# Altium integrated library TI Power Management Linear Regulator Dual Channel LDO.IntLib: 299 symbols (part 12 of 15)
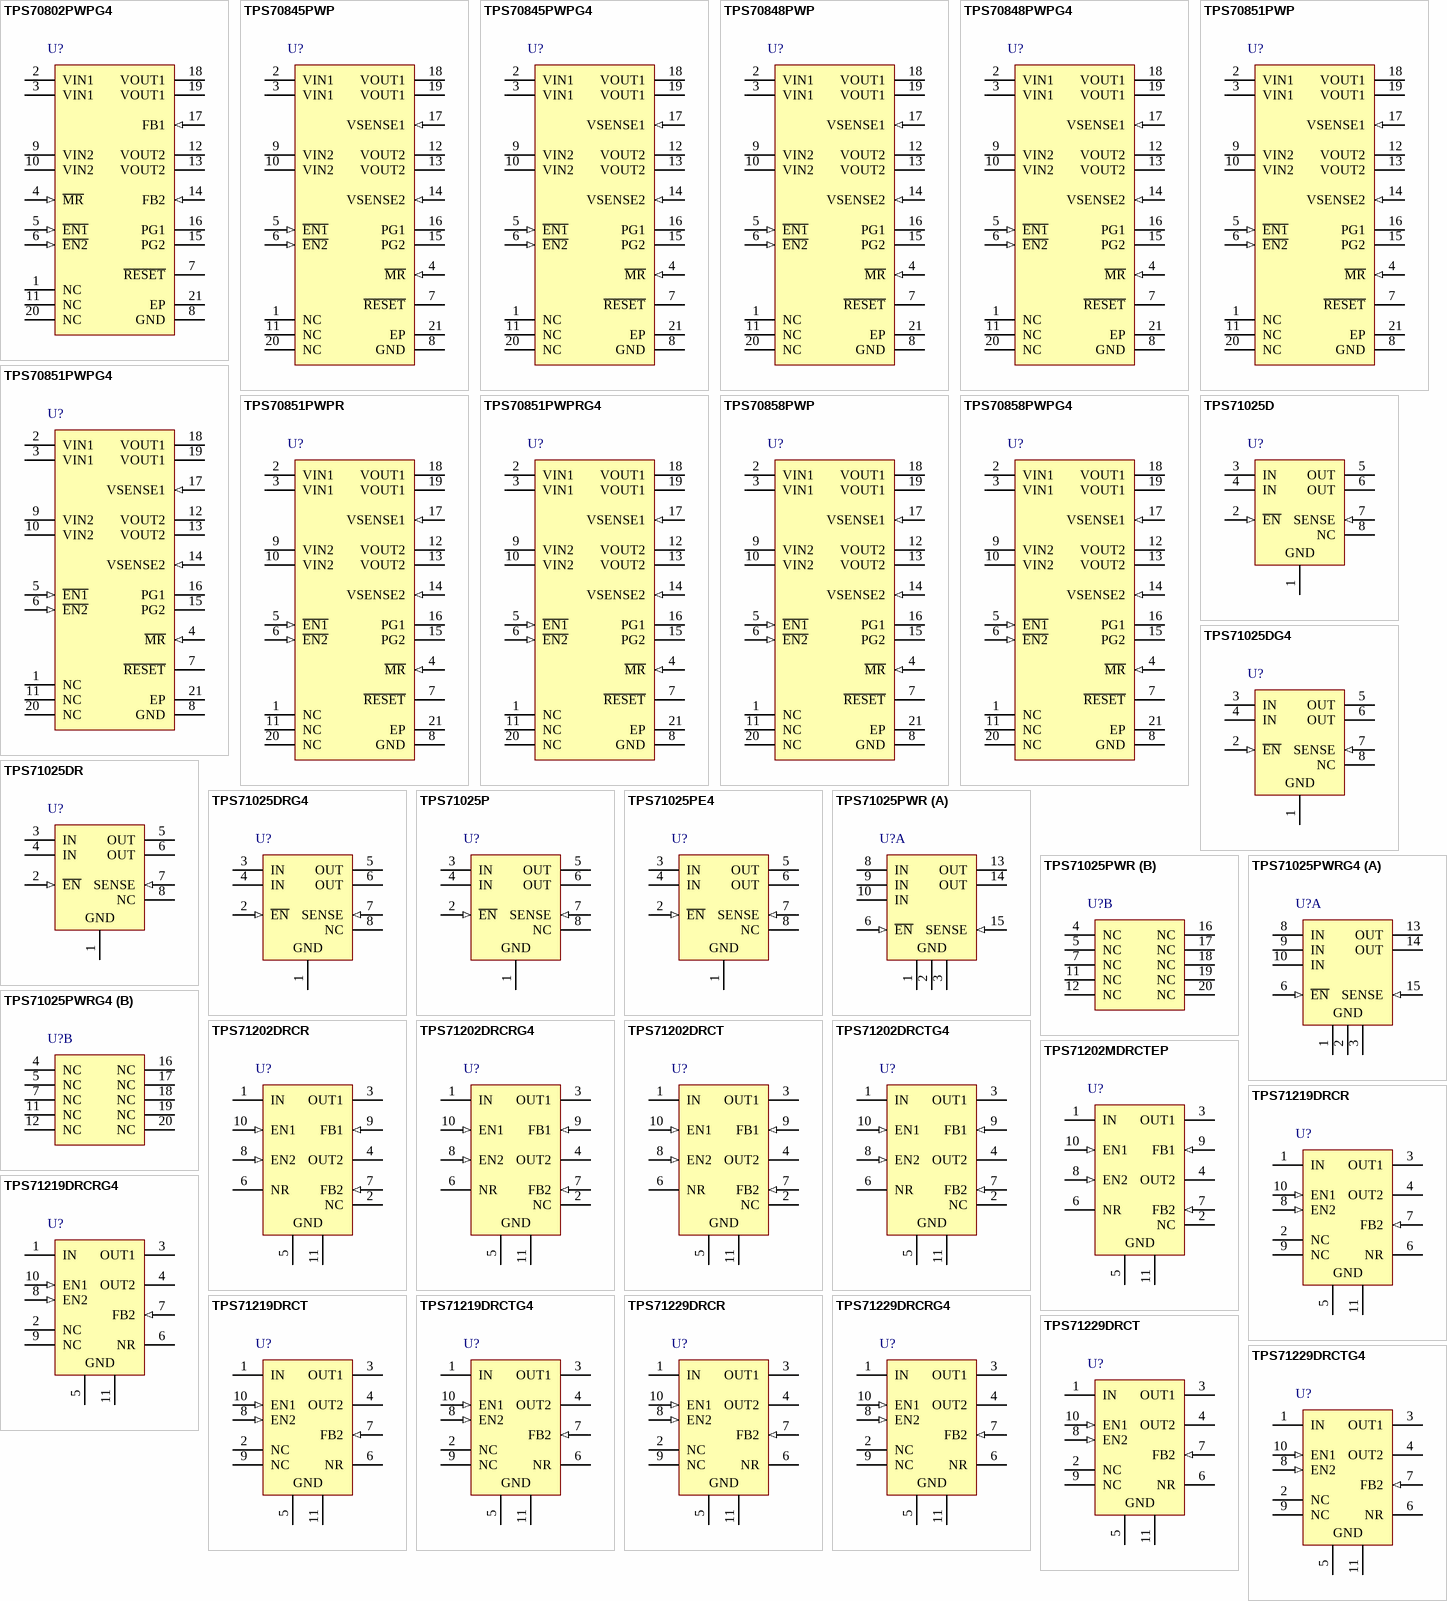
[diagram p22: symbols TPS70802PWPG4 to TPS71229DRCTG4]

## TPS71202DRCTG4
designator U?
Dual Output High PSRR LDO, 200 mA, 2.7 to 5.5 V Input, 10-pin SON (DRC), -40 to 125 degC, Green (RoHS & no Sb/Br); Manufacturer: Texas Instruments; PartNumber: TPS71202DRCTG4; Iout(Max)(A): 0.2; Iq(Typ)(mA): 0.3; SubFamily: Dual Channel LDO; Vdo(Typ)(mV): 125; Vin(Max)(V): 5.5; Vin(Min)(V): 2.7; Vout(Min)(V): 1.2; DatasheetVersion: SBVS049D; PackageVersion: 4204102-3/L; PackageReference: DRC10-2400X1650TP; PackageDescription: 10-Pin Plastic Small Outline, Body 3 x 3 mm, Pitch 0.5 mm; Supplier 1: Digi-Key; Supplier Part Number 1: TPS71202DRCTG4-ND; Supplier 2: Mouser; Supplier Part Number 2: 595-TPS71202DRCTG4; Eco-Plan: Green (RoHS & no Sb/Br); Iout2(A): 0.2; Vout(Max)(V): 5.5; Vout2(Max)(V): 5.5; Vout2(Min)(V): 1.2; Mounting Technology: Surface Mount; ComponentLink1Description: Manufacturer URL; ComponentLink1URL: http://www.ti.com/; ComponentLink2Description: Datasheet; ComponentLink2URL: http://www.ti.com/general/docs/lit/getliterature.tsp?genericPartNumber=TPS71202&fileType=pdf; ComponentLink3Description: Package Specification; ComponentLink3URL: http://www.ti.com/litv/pdf/mpds117k
footprint TI-DRC10-2400X1650TP_V (SON, 10-Leads, Body 3x3mm, Pitch 0.5mm, Thermal Pad 3x1.65mm)
pins: 1 IN (power) "Unregulated input supply. A small 0.1 uF capacitor should be connected from IN to GND.", 2 NC "No connection.", 3 OUT1 (power) "Output of the regulator. A small 2.2 uF ceramic capacitor is required from this pin to ground to assure stability.", 4 OUT2 (power) "Same as OUT1 but for LDO2.", 5 GND (power) "Ground", 6 NR "Noise reduction pin; connect an external bypass capacitor to reduce LDO output noise.", 7 FB2 (in) "Feedback for CH2 adjustable version", 8 EN2 (in) "Same as EN1 but controls LDO2.", 9 FB1 (in) "Feedback for CH1 adjustable version", 10 EN1 (in) "Driving the enable pin (EN) high turns on LDO1. Driving this pin low puts LDO1 into shutdown mode,reducing operating current. The enable pin should be connected to IN if not used.", 11 GND (power) "Ground"

## TPS71202MDRCTEP
designator U?
Dual Output High PSRR LDO, 200 mA, 2.7 to 5.5 V Input, with Ultra-Low Noise, 10-pin SON(DRC), -55 to 125 degC, Green (RoHS & no Sb/Br); Manufacturer: Texas Instruments; PartNumber: TPS71202MDRCTEP; Iout(Max)(A): 0.2; Iq(Typ)(mA): 0.3; SubFamily: Dual Channel LDO; Vdo(Typ)(mV): 125; Vin(Max)(V): 5.5; Vin(Min)(V): 2.7; DatasheetVersion: SGLS395A; PackageVersion: 4204102-3/L; PackageReference: DRC10-2400X1650TP; PackageDescription: 10-Pin Plastic Small Outline, Body 3 x 3 mm, Pitch 0.5 mm; Supplier 1: Digi-Key; Supplier Part Number 1: 296-23866-2-ND; Supplier 2: Digi-Key; Supplier Part Number 2: 296-23866-1-ND; Supplier 3: Digi-Key; Supplier Part Number 3: 296-23866-6-ND; Supplier 4: Newark; Supplier Part Number 4: 79R8604; Supplier 5: Mouser; Supplier Part Number 5: 595-TPS71202MDRCTEP; Eco-Plan: Green (RoHS & no Sb/Br); Iout2(A): 0.2; Mounting Technology: Surface Mount; ComponentLink1Description: Manufacturer URL; ComponentLink1URL: http://www.ti.com/; ComponentLink2Description: Datasheet; ComponentLink2URL: http://www.ti.com/general/docs/lit/getliterature.tsp?genericPartNumber=TPS71202-EP&fileType=pdf; ComponentLink3Description: Package Specification; ComponentLink3URL: http://www.ti.com/litv/pdf/mpds117k
footprint TI-DRC10-2400X1650TP_V (SON, 10-Leads, Body 3x3mm, Pitch 0.5mm, Thermal Pad 3x1.65mm)
pins: 1 IN (power) "Unregulated input supply. A small 0.1 uF capacitor should be connected from IN to GND.", 2 NC "No connection.", 3 OUT1 (power) "Output of the regulator. A small 2.2 uF ceramic capacitor is required from this pin to ground to assure stability.", 4 OUT2 (power) "Same as OUT1 but for LDO2.", 5 GND (power) "Ground", 6 NR "Noise reduction pin; connect an external bypass capacitor to reduce LDO output noise.", 7 FB2 (in) "Feedback for CH2 adjustable version", 8 EN2 (in) "Same as EN1 but controls LDO2.", 9 FB1 (in) "Feedback for CH1 adjustable version", 10 EN1 (in) "Driving the enable pin (EN) high turns on LDO1. Driving this pin low puts LDO1 into shutdown mode,reducing operating current. The enable pin should be connected to IN if not used.", 11 GND (power) "Ground"

## TPS71219DRCR
designator U?
Dual Output High PSRR LDO, 200 mA, Fixed 1.8 V Output, 2.7 to 5.5 V Input, 10-pin SON (DRC), -40 to 125 degC, Green (RoHS & no Sb/Br); Manufacturer: Texas Instruments; PartNumber: TPS71219DRCR; Fixed Output Options(V): 1.8; Iout(Max)(A): 0.2; Iq(Typ)(mA): 0.3; SubFamily: Dual Channel LDO; Vdo(Typ)(mV): 125; Vin(Max)(V): 5.5; Vin(Min)(V): 2.7; Vout2(Min)(V): 1.2; DatasheetVersion: SBVS049D; PackageVersion: 4204102-3/L; PackageReference: DRC10-2400X1650TP; PackageDescription: 10-Pin Plastic Small Outline, Body 3 x 3 mm, Pitch 0.5 mm; Supplier 1: Digi-Key; Supplier Part Number 1: 296-29077-2-ND; Supplier 2: Digi-Key; Supplier Part Number 2: 296-29077-1-ND; Supplier 3: Digi-Key; Supplier Part Number 3: 296-29077-6-ND; Supplier 4: Mouser; Supplier Part Number 4: 595-TPS71219DRCR; Eco-Plan: Green (RoHS & no Sb/Br); Iout2(A): 0.2; Vout(Max)(V): 1.8; Vout(Min)(V): 1.8; Vout2(Max)(V): 5.5; Mounting Technology: Surface Mount; ComponentLink1Description: Manufacturer URL; ComponentLink1URL: http://www.ti.com/; ComponentLink2Description: Datasheet; ComponentLink2URL: http://www.ti.com/general/docs/lit/getliterature.tsp?genericPartNumber=TPS71219&fileType=pdf; ComponentLink3Description: Package Specification; ComponentLink3URL: http://www.ti.com/litv/pdf/mpds117k
footprint TI-DRC10-2400X1650TP_V (SON, 10-Leads, Body 3x3mm, Pitch 0.5mm, Thermal Pad 3x1.65mm)
pins: 1 IN (power) "Unregulated input supply. A small 0.1 uF capacitor should be connected from IN to GND.", 2 NC "No connection.", 3 OUT1 (power) "Output of the regulator. A small 2.2 uF ceramic capacitor is required from this pin to ground to assure stability.", 4 OUT2 (power) "Same as OUT1 but for LDO2.", 5 GND (power) "Ground", 6 NR "Noise reduction pin; connect an external bypass capacitor to reduce LDO output noise.", 7 FB2 (in) "Feedback for CH2 adjustable version.", 8 EN2 (in) "Same as EN1 but controls LDO2.", 9 NC "No connection.", 10 EN1 (in) "Driving the enable pin (EN) high turns on LDO1. Driving this pin low puts LDO1 into shutdown mode, reducing operating current. The enable pin should be connected to IN if not used.", 11 GND (power) "Ground"

## TPS71219DRCRG4
designator U?
Dual Output High PSRR LDO, 200 mA, Fixed 1.8 V Output, 2.7 to 5.5 V Input, 10-pin SON (DRC), -40 to 125 degC, Green (RoHS & no Sb/Br); Manufacturer: Texas Instruments; PartNumber: TPS71219DRCRG4; Fixed Output Options(V): 1.8; Iout(Max)(A): 0.2; Iq(Typ)(mA): 0.3; SubFamily: Dual Channel LDO; Vdo(Typ)(mV): 125; Vin(Max)(V): 5.5; Vin(Min)(V): 2.7; Vout2(Min)(V): 1.2; DatasheetVersion: SBVS049D; PackageVersion: 4204102-3/L; PackageReference: DRC10-2400X1650TP; PackageDescription: 10-Pin Plastic Small Outline, Body 3 x 3 mm, Pitch 0.5 mm; Supplier 1: Digi-Key; Supplier Part Number 1: TPS71219DRCRG4-ND; Supplier 2: Mouser; Supplier Part Number 2: 595-TPS71219DRCRG4; Eco-Plan: Green (RoHS & no Sb/Br); Iout2(A): 0.2; Vout(Max)(V): 1.8; Vout(Min)(V): 1.8; Vout2(Max)(V): 5.5; Mounting Technology: Surface Mount; ComponentLink1Description: Manufacturer URL; ComponentLink1URL: http://www.ti.com/; ComponentLink2Description: Datasheet; ComponentLink2URL: http://www.ti.com/general/docs/lit/getliterature.tsp?genericPartNumber=TPS71219&fileType=pdf; ComponentLink3Description: Package Specification; ComponentLink3URL: http://www.ti.com/litv/pdf/mpds117k
footprint TI-DRC10-2400X1650TP_V (SON, 10-Leads, Body 3x3mm, Pitch 0.5mm, Thermal Pad 3x1.65mm)
pins: 1 IN (power) "Unregulated input supply. A small 0.1 uF capacitor should be connected from IN to GND.", 2 NC "No connection.", 3 OUT1 (power) "Output of the regulator. A small 2.2 uF ceramic capacitor is required from this pin to ground to assure stability.", 4 OUT2 (power) "Same as OUT1 but for LDO2.", 5 GND (power) "Ground", 6 NR "Noise reduction pin; connect an external bypass capacitor to reduce LDO output noise.", 7 FB2 (in) "Feedback for CH2 adjustable version.", 8 EN2 (in) "Same as EN1 but controls LDO2.", 9 NC "No connection.", 10 EN1 (in) "Driving the enable pin (EN) high turns on LDO1. Driving this pin low puts LDO1 into shutdown mode, reducing operating current. The enable pin should be connected to IN if not used.", 11 GND (power) "Ground"

## TPS71219DRCT
designator U?
Dual Output High PSRR LDO, 200 mA, Fixed 1.8 V Output, 2.7 to 5.5 V Input, 10-pin SON (DRC), -40 to 125 degC, Green (RoHS & no Sb/Br); Manufacturer: Texas Instruments; PartNumber: TPS71219DRCT; Fixed Output Options(V): 1.8; Iout(Max)(A): 0.2; Iq(Typ)(mA): 0.3; SubFamily: Dual Channel LDO; Vdo(Typ)(mV): 125; Vin(Max)(V): 5.5; Vin(Min)(V): 2.7; Vout2(Min)(V): 1.2; DatasheetVersion: SBVS049D; PackageVersion: 4204102-3/L; PackageReference: DRC10-2400X1650TP; PackageDescription: 10-Pin Plastic Small Outline, Body 3 x 3 mm, Pitch 0.5 mm; Supplier 1: Digi-Key; Supplier Part Number 1: 296-17697-2-ND; Supplier 2: Digi-Key; Supplier Part Number 2: 296-17697-1-ND; Supplier 3: Digi-Key; Supplier Part Number 3: 296-17697-6-ND; Supplier 4: Farnell; Supplier Part Number 4: 1755487; Supplier 5: Farnell; Supplier Part Number 5: 1755487RL; Supplier 6: Newark; Supplier Part Number 6: 34R9237; Supplier 7: Mouser; Supplier Part Number 7: 595-TPS71219DRCT; Eco-Plan: Green (RoHS & no Sb/Br); Iout2(A): 0.2; Vout(Max)(V): 1.8; Vout(Min)(V): 1.8; Vout2(Max)(V): 5.5; Mounting Technology: Surface Mount; ComponentLink1Description: Manufacturer URL; ComponentLink1URL: http://www.ti.com/; ComponentLink2Description: Datasheet; ComponentLink2URL: http://www.ti.com/general/docs/lit/getliterature.tsp?genericPartNumber=TPS71219&fileType=pdf; ComponentLink3Description: Package Specification; ComponentLink3URL: http://www.ti.com/litv/pdf/mpds117k
footprint TI-DRC10-2400X1650TP_V (SON, 10-Leads, Body 3x3mm, Pitch 0.5mm, Thermal Pad 3x1.65mm)
pins: 1 IN (power) "Unregulated input supply. A small 0.1 uF capacitor should be connected from IN to GND.", 2 NC "No connection.", 3 OUT1 (power) "Output of the regulator. A small 2.2 uF ceramic capacitor is required from this pin to ground to assure stability.", 4 OUT2 (power) "Same as OUT1 but for LDO2.", 5 GND (power) "Ground", 6 NR "Noise reduction pin; connect an external bypass capacitor to reduce LDO output noise.", 7 FB2 (in) "Feedback for CH2 adjustable version.", 8 EN2 (in) "Same as EN1 but controls LDO2.", 9 NC "No connection.", 10 EN1 (in) "Driving the enable pin (EN) high turns on LDO1. Driving this pin low puts LDO1 into shutdown mode, reducing operating current. The enable pin should be connected to IN if not used.", 11 GND (power) "Ground"

## TPS71219DRCTG4
designator U?
Dual Output High PSRR LDO, 200 mA, Fixed 1.8 V Output, 2.7 to 5.5 V Input, 10-pin SON (DRC), -40 to 125 degC, Green (RoHS & no Sb/Br); Manufacturer: Texas Instruments; PartNumber: TPS71219DRCTG4; Fixed Output Options(V): 1.8; Iout(Max)(A): 0.2; Iq(Typ)(mA): 0.3; SubFamily: Dual Channel LDO; Vdo(Typ)(mV): 125; Vin(Max)(V): 5.5; Vin(Min)(V): 2.7; Vout2(Min)(V): 1.2; DatasheetVersion: SBVS049D; PackageVersion: 4204102-3/L; PackageReference: DRC10-2400X1650TP; PackageDescription: 10-Pin Plastic Small Outline, Body 3 x 3 mm, Pitch 0.5 mm; Supplier 1: Digi-Key; Supplier Part Number 1: TPS71219DRCTG4-ND; Supplier 2: Mouser; Supplier Part Number 2: 595-TPS71219DRCTG4; Eco-Plan: Green (RoHS & no Sb/Br); Iout2(A): 0.2; Vout(Max)(V): 1.8; Vout(Min)(V): 1.8; Vout2(Max)(V): 5.5; Mounting Technology: Surface Mount; ComponentLink1Description: Manufacturer URL; ComponentLink1URL: http://www.ti.com/; ComponentLink2Description: Datasheet; ComponentLink2URL: http://www.ti.com/general/docs/lit/getliterature.tsp?genericPartNumber=TPS71219&fileType=pdf; ComponentLink3Description: Package Specification; ComponentLink3URL: http://www.ti.com/litv/pdf/mpds117k
footprint TI-DRC10-2400X1650TP_V (SON, 10-Leads, Body 3x3mm, Pitch 0.5mm, Thermal Pad 3x1.65mm)
pins: 1 IN (power) "Unregulated input supply. A small 0.1 uF capacitor should be connected from IN to GND.", 2 NC "No connection.", 3 OUT1 (power) "Output of the regulator. A small 2.2 uF ceramic capacitor is required from this pin to ground to assure stability.", 4 OUT2 (power) "Same as OUT1 but for LDO2.", 5 GND (power) "Ground", 6 NR "Noise reduction pin; connect an external bypass capacitor to reduce LDO output noise.", 7 FB2 (in) "Feedback for CH2 adjustable version.", 8 EN2 (in) "Same as EN1 but controls LDO2.", 9 NC "No connection.", 10 EN1 (in) "Driving the enable pin (EN) high turns on LDO1. Driving this pin low puts LDO1 into shutdown mode, reducing operating current. The enable pin should be connected to IN if not used.", 11 GND (power) "Ground"

## TPS71229DRCR
designator U?
Dual Output High PSRR LDO, 200 mA, Fixed 2.8 V Output, 2.7 to 5.5 V Input, 10-pin SON (DRC), -40 to 125 degC, Green (RoHS & no Sb/Br); Manufacturer: Texas Instruments; PartNumber: TPS71229DRCR; Fixed Output Options(V): 2.8; Iout(Max)(A): 0.2; Iq(Typ)(mA): 0.3; SubFamily: Dual Channel LDO; Vdo(Typ)(mV): 125; Vin(Max)(V): 5.5; Vin(Min)(V): 2.7; Vout2(Min)(V): 1.2; DatasheetVersion: SBVS049D; PackageVersion: 4204102-3/L; PackageReference: DRC10-2400X1650TP; PackageDescription: 10-Pin Plastic Small Outline, Body 3 x 3 mm, Pitch 0.5 mm; Supplier 1: Digi-Key; Supplier Part Number 1: TPS71229DRCR-ND; Supplier 2: Newark; Supplier Part Number 2: 73J8394; Supplier 3: Mouser; Supplier Part Number 3: 595-TPS71229DRCR; Eco-Plan: Green (RoHS & no Sb/Br); Iout2(A): 0.2; Vout(Max)(V): 2.8; Vout(Min)(V): 2.8; Vout2(Max)(V): 5.5; Mounting Technology: Surface Mount; ComponentLink1Description: Manufacturer URL; ComponentLink1URL: http://www.ti.com/; ComponentLink2Description: Datasheet; ComponentLink2URL: http://www.ti.com/general/docs/lit/getliterature.tsp?genericPartNumber=TPS71229&fileType=pdf; ComponentLink3Description: Package Specification; ComponentLink3URL: http://www.ti.com/litv/pdf/mpds117k
footprint TI-DRC10-2400X1650TP_V (SON, 10-Leads, Body 3x3mm, Pitch 0.5mm, Thermal Pad 3x1.65mm)
pins: 1 IN (power) "Unregulated input supply. A small 0.1 uF capacitor should be connected from IN to GND.", 2 NC "No connection.", 3 OUT1 (power) "Output of the regulator. A small 2.2 uF ceramic capacitor is required from this pin to ground to assure stability.", 4 OUT2 (power) "Same as OUT1 but for LDO2.", 5 GND (power) "Ground", 6 NR "Noise reduction pin; connect an external bypass capacitor to reduce LDO output noise.", 7 FB2 (in) "Feedback for CH2 adjustable version", 8 EN2 (in) "Same as EN1 but controls LDO2.", 9 NC "no connection for non-adjustable CH1.", 10 EN1 (in) "Driving the enable pin (EN) high turns on LDO1. Driving this pin low puts LDO1 into shutdown mode, reducing operating current. The enable pin should be connected to IN if not used.", 11 GND (power) "Ground"

## TPS71229DRCRG4
designator U?
Dual Output High PSRR LDO, 200 mA, Fixed 2.8 V Output, 2.7 to 5.5 V Input, 10-pin SON (DRC), -40 to 125 degC, Green (RoHS & no Sb/Br); Manufacturer: Texas Instruments; PartNumber: TPS71229DRCRG4; Fixed Output Options(V): 2.8; Iout(Max)(A): 0.2; Iq(Typ)(mA): 0.3; SubFamily: Dual Channel LDO; Vdo(Typ)(mV): 125; Vin(Max)(V): 5.5; Vin(Min)(V): 2.7; Vout2(Min)(V): 1.2; DatasheetVersion: SBVS049D; PackageVersion: 4204102-3/L; PackageReference: DRC10-2400X1650TP; PackageDescription: 10-Pin Plastic Small Outline, Body 3 x 3 mm, Pitch 0.5 mm; Supplier 1: Digi-Key; Supplier Part Number 1: TPS71229DRCRG4-ND; Supplier 2: Mouser; Supplier Part Number 2: 595-TPS71229DRCRG4; Eco-Plan: Green (RoHS & no Sb/Br); Iout2(A): 0.2; Vout(Max)(V): 2.8; Vout(Min)(V): 2.8; Vout2(Max)(V): 5.5; Mounting Technology: Surface Mount; ComponentLink1Description: Manufacturer URL; ComponentLink1URL: http://www.ti.com/; ComponentLink2Description: Datasheet; ComponentLink2URL: http://www.ti.com/general/docs/lit/getliterature.tsp?genericPartNumber=TPS71229&fileType=pdf; ComponentLink3Description: Package Specification; ComponentLink3URL: http://www.ti.com/litv/pdf/mpds117k
footprint TI-DRC10-2400X1650TP_V (SON, 10-Leads, Body 3x3mm, Pitch 0.5mm, Thermal Pad 3x1.65mm)
pins: 1 IN (power) "Unregulated input supply. A small 0.1 uF capacitor should be connected from IN to GND.", 2 NC "No connection.", 3 OUT1 (power) "Output of the regulator. A small 2.2 uF ceramic capacitor is required from this pin to ground to assure stability.", 4 OUT2 (power) "Same as OUT1 but for LDO2.", 5 GND (power) "Ground", 6 NR "Noise reduction pin; connect an external bypass capacitor to reduce LDO output noise.", 7 FB2 (in) "Feedback for CH2 adjustable version", 8 EN2 (in) "Same as EN1 but controls LDO2.", 9 NC "no connection for non-adjustable CH1.", 10 EN1 (in) "Driving the enable pin (EN) high turns on LDO1. Driving this pin low puts LDO1 into shutdown mode, reducing operating current. The enable pin should be connected to IN if not used.", 11 GND (power) "Ground"

## TPS71229DRCT
designator U?
Dual Output High PSRR LDO, 200 mA, Fixed 2.8 V Output, 2.7 to 5.5 V Input, 10-pin SON (DRC), -40 to 125 degC, Green (RoHS & no Sb/Br); Manufacturer: Texas Instruments; PartNumber: TPS71229DRCT; Fixed Output Options(V): 2.8; Iout(Max)(A): 0.2; Iq(Typ)(mA): 0.3; SubFamily: Dual Channel LDO; Vdo(Typ)(mV): 125; Vin(Max)(V): 5.5; Vin(Min)(V): 2.7; Vout2(Min)(V): 1.2; DatasheetVersion: SBVS049D; PackageVersion: 4204102-3/L; PackageReference: DRC10-2400X1650TP; PackageDescription: 10-Pin Plastic Small Outline, Body 3 x 3 mm, Pitch 0.5 mm; Supplier 1: Digi-Key; Supplier Part Number 1: 296-17698-2-ND; Supplier 2: Digi-Key; Supplier Part Number 2: 296-17698-1-ND; Supplier 3: Digi-Key; Supplier Part Number 3: 296-17698-6-ND; Supplier 4: Mouser; Supplier Part Number 4: 595-TPS71229DRCT; Eco-Plan: Green (RoHS & no Sb/Br); Iout2(A): 0.2; Vout(Max)(V): 2.8; Vout(Min)(V): 2.8; Vout2(Max)(V): 5.5; Mounting Technology: Surface Mount; ComponentLink1Description: Manufacturer URL; ComponentLink1URL: http://www.ti.com/; ComponentLink2Description: Datasheet; ComponentLink2URL: http://www.ti.com/general/docs/lit/getliterature.tsp?genericPartNumber=TPS71229&fileType=pdf; ComponentLink3Description: Package Specification; ComponentLink3URL: http://www.ti.com/litv/pdf/mpds117k
footprint TI-DRC10-2400X1650TP_V (SON, 10-Leads, Body 3x3mm, Pitch 0.5mm, Thermal Pad 3x1.65mm)
pins: 1 IN (power) "Unregulated input supply. A small 0.1 uF capacitor should be connected from IN to GND.", 2 NC "No connection.", 3 OUT1 (power) "Output of the regulator. A small 2.2 uF ceramic capacitor is required from this pin to ground to assure stability.", 4 OUT2 (power) "Same as OUT1 but for LDO2.", 5 GND (power) "Ground", 6 NR "Noise reduction pin; connect an external bypass capacitor to reduce LDO output noise.", 7 FB2 (in) "Feedback for CH2 adjustable version", 8 EN2 (in) "Same as EN1 but controls LDO2.", 9 NC "no connection for non-adjustable CH1.", 10 EN1 (in) "Driving the enable pin (EN) high turns on LDO1. Driving this pin low puts LDO1 into shutdown mode, reducing operating current. The enable pin should be connected to IN if not used.", 11 GND (power) "Ground"

## TPS71229DRCTG4
designator U?
Dual Output High PSRR LDO, 200 mA, Fixed 2.8 V Output, 2.7 to 5.5 V Input, 10-pin SON (DRC), -40 to 125 degC, Green (RoHS & no Sb/Br); Manufacturer: Texas Instruments; PartNumber: TPS71229DRCTG4; Fixed Output Options(V): 2.8; Iout(Max)(A): 0.2; Iq(Typ)(mA): 0.3; SubFamily: Dual Channel LDO; Vdo(Typ)(mV): 125; Vin(Max)(V): 5.5; Vin(Min)(V): 2.7; Vout2(Min)(V): 1.2; DatasheetVersion: SBVS049D; PackageVersion: 4204102-3/L; PackageReference: DRC10-2400X1650TP; PackageDescription: 10-Pin Plastic Small Outline, Body 3 x 3 mm, Pitch 0.5 mm; Supplier 1: Digi-Key; Supplier Part Number 1: TPS71229DRCTG4-ND; Supplier 2: Mouser; Supplier Part Number 2: 595-TPS71229DRCTG4; Eco-Plan: Green (RoHS & no Sb/Br); Iout2(A): 0.2; Vout(Max)(V): 2.8; Vout(Min)(V): 2.8; Vout2(Max)(V): 5.5; Mounting Technology: Surface Mount; ComponentLink1Description: Manufacturer URL; ComponentLink1URL: http://www.ti.com/; ComponentLink2Description: Datasheet; ComponentLink2URL: http://www.ti.com/general/docs/lit/getliterature.tsp?genericPartNumber=TPS71229&fileType=pdf; ComponentLink3Description: Package Specification; ComponentLink3URL: http://www.ti.com/litv/pdf/mpds117k
footprint TI-DRC10-2400X1650TP_V (SON, 10-Leads, Body 3x3mm, Pitch 0.5mm, Thermal Pad 3x1.65mm)
pins: 1 IN (power) "Unregulated input supply. A small 0.1 uF capacitor should be connected from IN to GND.", 2 NC "No connection.", 3 OUT1 (power) "Output of the regulator. A small 2.2 uF ceramic capacitor is required from this pin to ground to assure stability.", 4 OUT2 (power) "Same as OUT1 but for LDO2.", 5 GND (power) "Ground", 6 NR "Noise reduction pin; connect an external bypass capacitor to reduce LDO output noise.", 7 FB2 (in) "Feedback for CH2 adjustable version", 8 EN2 (in) "Same as EN1 but controls LDO2.", 9 NC "no connection for non-adjustable CH1.", 10 EN1 (in) "Driving the enable pin (EN) high turns on LDO1. Driving this pin low puts LDO1 into shutdown mode, reducing operating current. The enable pin should be connected to IN if not used.", 11 GND (power) "Ground"

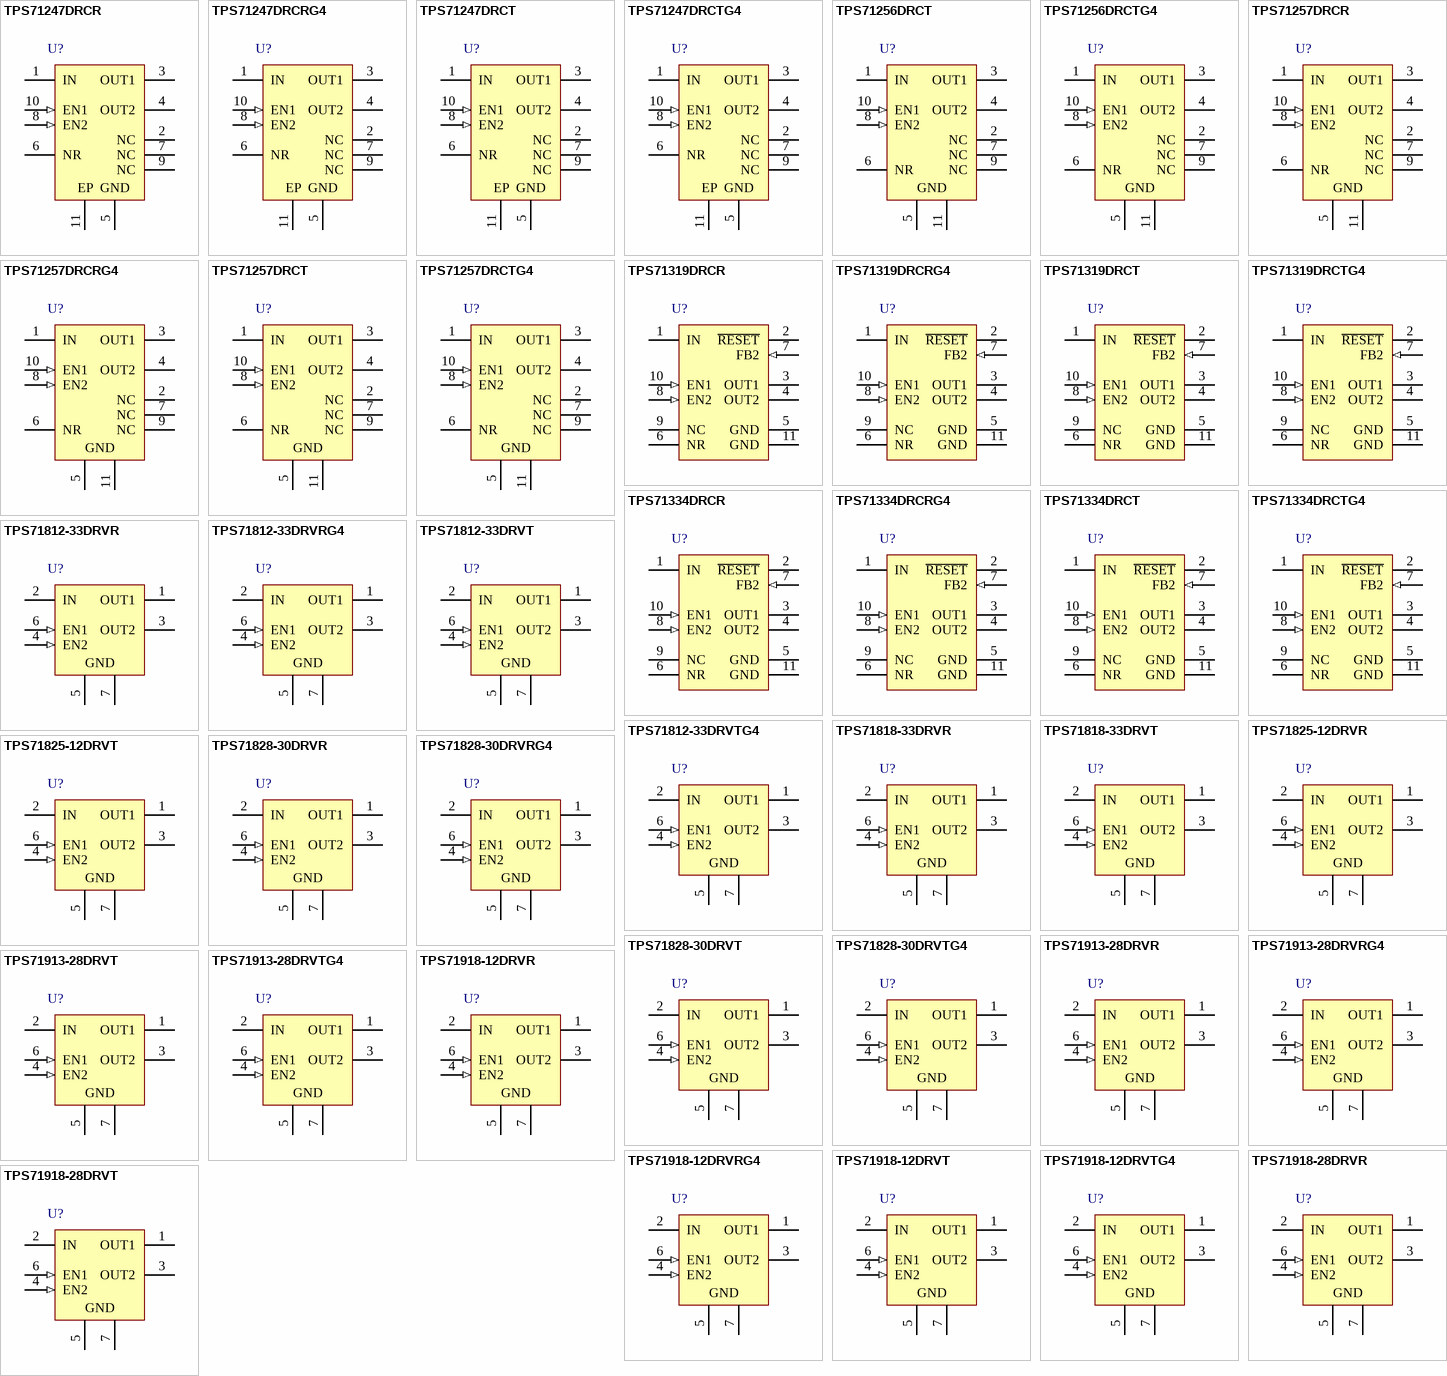
[diagram p10: symbols TPS71247DRCR to TPS71918-28DRVT]

## TPS71247DRCR
designator U?
Dual Output High PSRR LDO, 200 mA, Fixed 1.8, 2.85 V Output, 2.7 to 5.5 V Input, 10-pin SON (DRC), -40 to 125 degC, Green (RoHS & no Sb/Br); Manufacturer: Texas Instruments; PartNumber: TPS71247DRCR; Iout(Max)(A): 0.2; Iq(Typ)(mA): 0.3; SubFamily: Dual Channel LDO; Vdo(Typ)(mV): 125; Vin(Max)(V): 5.5; Vin(Min)(V): 2.7; Vout(Max)(V): 1.8; Vout2(Max)(V): 2.8; DatasheetVersion: SBVS049D; PackageVersion: 4204102-3/L; PackageReference: DRC10-2400X1650TP; PackageDescription: 10-Pin Plastic Small Outline, Body 3 x 3 mm, Pitch 0.5 mm; Supplier 1: Digi-Key; Supplier Part Number 1: 296-29078-2-ND; Supplier 2: Digi-Key; Supplier Part Number 2: 296-29078-1-ND; Supplier 3: Digi-Key; Supplier Part Number 3: 296-29078-6-ND; Supplier 4: Newark; Supplier Part Number 4: 73J8396; Supplier 5: Mouser; Supplier Part Number 5: 595-TPS71247DRCR; Eco-Plan: Green (RoHS & no Sb/Br); Fixed Output Options(V): 1.8, 2.85; Iout2(A): 0.2; Vout(Min)(V): 1.8; Vout2(Min)(V): 2.8; Mounting Technology: Surface Mount; ComponentLink1Description: Manufacturer URL; ComponentLink1URL: http://www.ti.com/; ComponentLink2Description: Datasheet; ComponentLink2URL: http://www.ti.com/general/docs/lit/getliterature.tsp?genericPartNumber=TPS71247&fileType=pdf; ComponentLink3Description: Package Specification; ComponentLink3URL: http://www.ti.com/litv/pdf/mpds117k
footprint TI-DRC10-2400X1650TP_V (SON, 10-Leads, Body 3x3mm, Pitch 0.5mm, Thermal Pad 3x1.65mm)
pins: 1 IN (power) "Unregulated input supply. A small 0.1 uF capacitor should be connected from IN to GND.", 2 NC "No connection.", 3 OUT1 (power) "Output of the regulator1. A small 2.2 uF ceramic capacitor is required from this pin to ground to assure stability.", 4 OUT2 (power) "Output of the regulator2. A small 2.2 uF ceramic capacitor is required from this pin to ground to assure stability.", 5 GND (power) "Ground", 6 NR "Noise reduction pin; connect an external bypass capacitor to reduce LDO output noise.", 7 NC "No connection.", 8 EN2 (in) "Driving the enable pin (EN) high turns on LDO2. Driving this pin low puts LDO2 into shutdown mode,reducing operating current. The enable pin should be connected to IN if not used.", 9 NC "No connection.", 10 EN1 (in) "Driving the enable pin (EN) high turns on LDO1. Driving this pin low puts LDO1 into shutdown mode,reducing operating current. The enable pin should be connected to IN if not used.", 11 EP (power) "Ground"

## TPS71247DRCRG4
designator U?
Dual Output High PSRR LDO, 200 mA, Fixed 1.8, 2.85 V Output, 2.7 to 5.5 V Input, 10-pin SON (DRC), -40 to 125 degC, Green (RoHS & no Sb/Br); Manufacturer: Texas Instruments; PartNumber: TPS71247DRCRG4; Iout(Max)(A): 0.2; Iq(Typ)(mA): 0.3; SubFamily: Dual Channel LDO; Vdo(Typ)(mV): 125; Vin(Max)(V): 5.5; Vin(Min)(V): 2.7; Vout(Max)(V): 1.8; Vout2(Max)(V): 2.8; DatasheetVersion: SBVS049D; PackageVersion: 4204102-3/L; PackageReference: DRC10-2400X1650TP; PackageDescription: 10-Pin Plastic Small Outline, Body 3 x 3 mm, Pitch 0.5 mm; Supplier 1: Digi-Key; Supplier Part Number 1: TPS71247DRCRG4-ND; Supplier 2: Mouser; Supplier Part Number 2: 595-TPS71247DRCRG4; Eco-Plan: Green (RoHS & no Sb/Br); Fixed Output Options(V): 1.8, 2.85; Iout2(A): 0.2; Vout(Min)(V): 1.8; Vout2(Min)(V): 2.8; Mounting Technology: Surface Mount; ComponentLink1Description: Manufacturer URL; ComponentLink1URL: http://www.ti.com/; ComponentLink2Description: Datasheet; ComponentLink2URL: http://www.ti.com/general/docs/lit/getliterature.tsp?genericPartNumber=TPS71247&fileType=pdf; ComponentLink3Description: Package Specification; ComponentLink3URL: http://www.ti.com/litv/pdf/mpds117k
footprint TI-DRC10-2400X1650TP_V (SON, 10-Leads, Body 3x3mm, Pitch 0.5mm, Thermal Pad 3x1.65mm)
pins: 1 IN (power) "Unregulated input supply. A small 0.1 uF capacitor should be connected from IN to GND.", 2 NC "No connection.", 3 OUT1 (power) "Output of the regulator1. A small 2.2 uF ceramic capacitor is required from this pin to ground to assure stability.", 4 OUT2 (power) "Output of the regulator2. A small 2.2 uF ceramic capacitor is required from this pin to ground to assure stability.", 5 GND (power) "Ground", 6 NR "Noise reduction pin; connect an external bypass capacitor to reduce LDO output noise.", 7 NC "No connection.", 8 EN2 (in) "Driving the enable pin (EN) high turns on LDO2. Driving this pin low puts LDO2 into shutdown mode,reducing operating current. The enable pin should be connected to IN if not used.", 9 NC "No connection.", 10 EN1 (in) "Driving the enable pin (EN) high turns on LDO1. Driving this pin low puts LDO1 into shutdown mode,reducing operating current. The enable pin should be connected to IN if not used.", 11 EP (power) "Ground"

## TPS71247DRCT
designator U?
Dual Output High PSRR LDO, 200 mA, Fixed 1.8, 2.85 V Output, 2.7 to 5.5 V Input, 10-pin SON (DRC), -40 to 125 degC, Green (RoHS & no Sb/Br); Manufacturer: Texas Instruments; PartNumber: TPS71247DRCT; Iout(Max)(A): 0.2; Iq(Typ)(mA): 0.3; SubFamily: Dual Channel LDO; Vdo(Typ)(mV): 125; Vin(Max)(V): 5.5; Vin(Min)(V): 2.7; Vout(Max)(V): 1.8; Vout2(Max)(V): 2.8; DatasheetVersion: SBVS049D; PackageVersion: 4204102-3/L; PackageReference: DRC10-2400X1650TP; PackageDescription: 10-Pin Plastic Small Outline, Body 3 x 3 mm, Pitch 0.5 mm; Supplier 1: Digi-Key; Supplier Part Number 1: 296-17699-2-ND; Supplier 2: Digi-Key; Supplier Part Number 2: 296-17699-1-ND; Supplier 3: Digi-Key; Supplier Part Number 3: 296-17699-6-ND; Supplier 4: Mouser; Supplier Part Number 4: 595-TPS71247DRCT; Eco-Plan: Green (RoHS & no Sb/Br); Fixed Output Options(V): 1.8, 2.85; Iout2(A): 0.2; Vout(Min)(V): 1.8; Vout2(Min)(V): 2.8; Mounting Technology: Surface Mount; ComponentLink1Description: Manufacturer URL; ComponentLink1URL: http://www.ti.com/; ComponentLink2Description: Datasheet; ComponentLink2URL: http://www.ti.com/general/docs/lit/getliterature.tsp?genericPartNumber=TPS71247&fileType=pdf; ComponentLink3Description: Package Specification; ComponentLink3URL: http://www.ti.com/litv/pdf/mpds117k
footprint TI-DRC10-2400X1650TP_V (SON, 10-Leads, Body 3x3mm, Pitch 0.5mm, Thermal Pad 3x1.65mm)
pins: 1 IN (power) "Unregulated input supply. A small 0.1 uF capacitor should be connected from IN to GND.", 2 NC "No connection.", 3 OUT1 (power) "Output of the regulator1. A small 2.2 uF ceramic capacitor is required from this pin to ground to assure stability.", 4 OUT2 (power) "Output of the regulator2. A small 2.2 uF ceramic capacitor is required from this pin to ground to assure stability.", 5 GND (power) "Ground", 6 NR "Noise reduction pin; connect an external bypass capacitor to reduce LDO output noise.", 7 NC "No connection.", 8 EN2 (in) "Driving the enable pin (EN) high turns on LDO2. Driving this pin low puts LDO2 into shutdown mode,reducing operating current. The enable pin should be connected to IN if not used.", 9 NC "No connection.", 10 EN1 (in) "Driving the enable pin (EN) high turns on LDO1. Driving this pin low puts LDO1 into shutdown mode,reducing operating current. The enable pin should be connected to IN if not used.", 11 EP (power) "Ground"

## TPS71247DRCTG4
designator U?
Dual Output High PSRR LDO, 200 mA, Fixed 1.8, 2.85 V Output, 2.7 to 5.5 V Input, 10-pin SON (DRC), -40 to 125 degC, Green (RoHS & no Sb/Br); Manufacturer: Texas Instruments; PartNumber: TPS71247DRCTG4; Iout(Max)(A): 0.2; Iq(Typ)(mA): 0.3; SubFamily: Dual Channel LDO; Vdo(Typ)(mV): 125; Vin(Max)(V): 5.5; Vin(Min)(V): 2.7; Vout(Max)(V): 1.8; Vout2(Max)(V): 2.8; DatasheetVersion: SBVS049D; PackageVersion: 4204102-3/L; PackageReference: DRC10-2400X1650TP; PackageDescription: 10-Pin Plastic Small Outline, Body 3 x 3 mm, Pitch 0.5 mm; Supplier 1: Digi-Key; Supplier Part Number 1: TPS71247DRCTG4-ND; Supplier 2: Mouser; Supplier Part Number 2: 595-TPS71247DRCTG4; Eco-Plan: Green (RoHS & no Sb/Br); Fixed Output Options(V): 1.8, 2.85; Iout2(A): 0.2; Vout(Min)(V): 1.8; Vout2(Min)(V): 2.8; Mounting Technology: Surface Mount; ComponentLink1Description: Manufacturer URL; ComponentLink1URL: http://www.ti.com/; ComponentLink2Description: Datasheet; ComponentLink2URL: http://www.ti.com/general/docs/lit/getliterature.tsp?genericPartNumber=TPS71247&fileType=pdf; ComponentLink3Description: Package Specification; ComponentLink3URL: http://www.ti.com/litv/pdf/mpds117k
footprint TI-DRC10-2400X1650TP_V (SON, 10-Leads, Body 3x3mm, Pitch 0.5mm, Thermal Pad 3x1.65mm)
pins: 1 IN (power) "Unregulated input supply. A small 0.1 uF capacitor should be connected from IN to GND.", 2 NC "No connection.", 3 OUT1 (power) "Output of the regulator1. A small 2.2 uF ceramic capacitor is required from this pin to ground to assure stability.", 4 OUT2 (power) "Output of the regulator2. A small 2.2 uF ceramic capacitor is required from this pin to ground to assure stability.", 5 GND (power) "Ground", 6 NR "Noise reduction pin; connect an external bypass capacitor to reduce LDO output noise.", 7 NC "No connection.", 8 EN2 (in) "Driving the enable pin (EN) high turns on LDO2. Driving this pin low puts LDO2 into shutdown mode,reducing operating current. The enable pin should be connected to IN if not used.", 9 NC "No connection.", 10 EN1 (in) "Driving the enable pin (EN) high turns on LDO1. Driving this pin low puts LDO1 into shutdown mode,reducing operating current. The enable pin should be connected to IN if not used.", 11 EP (power) "Ground"

## TPS71256DRCT
designator U?
Dual Output High PSRR LDO, 200 mA, Fixed 2.8 V Output, 2.7 to 5.5 V Input, 10-pin SON (DRC), -40 to 125 degC, Green (RoHS & no Sb/Br); Manufacturer: Texas Instruments; PartNumber: TPS71256DRCT; Fixed Output Options(V): 2.8; Iout(Max)(A): 0.2; Iq(Typ)(mA): 0.3; SubFamily: Dual Channel LDO; Vdo(Typ)(mV): 125; Vin(Max)(V): 5.5; Vin(Min)(V): 2.7; DatasheetVersion: SBVS049D; PackageVersion: 4204102-3/L; PackageReference: DRC10-2400X1650TP; PackageDescription: 10-Pin Plastic Small Outline, Body 3 x 3 mm, Pitch 0.5 mm; Supplier 1: Digi-Key; Supplier Part Number 1: 296-18281-2-ND; Supplier 2: Digi-Key; Supplier Part Number 2: 296-18281-1-ND; Supplier 3: Digi-Key; Supplier Part Number 3: 296-18281-6-ND; Supplier 4: Mouser; Supplier Part Number 4: 595-TPS71256DRCT; Eco-Plan: Green (RoHS & no Sb/Br); Iout2(A): 0.2; Vout(Max)(V): 2.8; Vout(Min)(V): 2.8; Vout2(Max)(V): 2.8; Vout2(Min)(V): 2.8; Mounting Technology: Surface Mount; ComponentLink1Description: Manufacturer URL; ComponentLink1URL: http://www.ti.com/; ComponentLink2Description: Datasheet; ComponentLink2URL: http://www.ti.com/general/docs/lit/getliterature.tsp?genericPartNumber=TPS71256&fileType=pdf; ComponentLink3Description: Package Specification; ComponentLink3URL: http://www.ti.com/litv/pdf/mpds117k
footprint TI-DRC10-2400X1650TP_V (SON, 10-Leads, Body 3x3mm, Pitch 0.5mm, Thermal Pad 3x1.65mm)
pins: 1 IN (power) "Unregulated input supply. A small 0.1 uF capacitor should be connected from IN to GND.", 2 NC "No connection.", 3 OUT1 (power) "Output of the regulator1. A small 2.2 uF ceramic capacitor is required from this pin to ground to assure stability.", 4 OUT2 (power) "Output of the regulator2. A small 2.2 uF ceramic capacitor is required from this pin to ground to assure stability.", 5 GND (power) "Ground", 6 NR "Noise reduction pin; connect an external bypass capacitor to reduce LDO output noise.", 7 NC "No connection.", 8 EN2 (in) "Driving the enable pin (EN) high turns on LDO2. Driving this pin low puts LDO2 into shutdown mode,reducing operating current. The enable pin should be connected to IN if not used.", 9 NC "No connection.", 10 EN1 (in) "Driving the enable pin (EN) high turns on LDO1. Driving this pin low puts LDO1 into shutdown mode,reducing operating current. The enable pin should be connected to IN if not used.", 11 GND (power) "Ground"

## TPS71256DRCTG4
designator U?
Dual Output High PSRR LDO, 200 mA, Fixed 2.8 V Output, 2.7 to 5.5 V Input, 10-pin SON (DRC), -40 to 125 degC, Green (RoHS & no Sb/Br); Manufacturer: Texas Instruments; PartNumber: TPS71256DRCTG4; Fixed Output Options(V): 2.8; Iout(Max)(A): 0.2; Iq(Typ)(mA): 0.3; SubFamily: Dual Channel LDO; Vdo(Typ)(mV): 125; Vin(Max)(V): 5.5; Vin(Min)(V): 2.7; DatasheetVersion: SBVS049D; PackageVersion: 4204102-3/L; PackageReference: DRC10-2400X1650TP; PackageDescription: 10-Pin Plastic Small Outline, Body 3 x 3 mm, Pitch 0.5 mm; Supplier 1: Digi-Key; Supplier Part Number 1: TPS71256DRCTG4-ND; Supplier 2: Mouser; Supplier Part Number 2: 595-TPS71256DRCTG4; Eco-Plan: Green (RoHS & no Sb/Br); Iout2(A): 0.2; Vout(Max)(V): 2.8; Vout(Min)(V): 2.8; Vout2(Max)(V): 2.8; Vout2(Min)(V): 2.8; Mounting Technology: Surface Mount; ComponentLink1Description: Manufacturer URL; ComponentLink1URL: http://www.ti.com/; ComponentLink2Description: Datasheet; ComponentLink2URL: http://www.ti.com/general/docs/lit/getliterature.tsp?genericPartNumber=TPS71256&fileType=pdf; ComponentLink3Description: Package Specification; ComponentLink3URL: http://www.ti.com/litv/pdf/mpds117k
footprint TI-DRC10-2400X1650TP_V (SON, 10-Leads, Body 3x3mm, Pitch 0.5mm, Thermal Pad 3x1.65mm)
pins: 1 IN (power) "Unregulated input supply. A small 0.1 uF capacitor should be connected from IN to GND.", 2 NC "No connection.", 3 OUT1 (power) "Output of the regulator1. A small 2.2 uF ceramic capacitor is required from this pin to ground to assure stability.", 4 OUT2 (power) "Output of the regulator2. A small 2.2 uF ceramic capacitor is required from this pin to ground to assure stability.", 5 GND (power) "Ground", 6 NR "Noise reduction pin; connect an external bypass capacitor to reduce LDO output noise.", 7 NC "No connection.", 8 EN2 (in) "Driving the enable pin (EN) high turns on LDO2. Driving this pin low puts LDO2 into shutdown mode,reducing operating current. The enable pin should be connected to IN if not used.", 9 NC "No connection.", 10 EN1 (in) "Driving the enable pin (EN) high turns on LDO1. Driving this pin low puts LDO1 into shutdown mode,reducing operating current. The enable pin should be connected to IN if not used.", 11 GND (power) "Ground"

## TPS71257DRCR
designator U?
Dual Output High PSRR LDO, 200 mA, Fixed 2.85 V Output, 2.7 to 5.5 V Input, 10-pin SON (DRC), -40 to 125 degC, Green (RoHS & no Sb/Br); Manufacturer: Texas Instruments; PartNumber: TPS71257DRCR; Fixed Output Options(V): 2.85; Iout(Max)(A): 0.2; Iq(Typ)(mA): 0.3; SubFamily: Dual Channel LDO; Vdo(Typ)(mV): 125; Vin(Max)(V): 5.5; Vin(Min)(V): 2.7; Vout(Max)(V): 2.8; DatasheetVersion: SBVS049D; PackageVersion: 4204102-3/L; PackageReference: DRC10-2400X1650TP; PackageDescription: 10-Pin Plastic Small Outline, Body 3 x 3 mm, Pitch 0.5 mm; Supplier 1: Digi-Key; Supplier Part Number 1: TPS71257DRCR-ND; Supplier 2: Mouser; Supplier Part Number 2: 595-TPS71257DRCR; Eco-Plan: Green (RoHS & no Sb/Br); Iout2(A): 0.2; Vout(Min)(V): 2.8; Vout2(Max)(V): 2.8; Vout2(Min)(V): 2.8; Mounting Technology: Surface Mount; ComponentLink1Description: Manufacturer URL; ComponentLink1URL: http://www.ti.com/; ComponentLink2Description: Datasheet; ComponentLink2URL: http://www.ti.com/general/docs/lit/getliterature.tsp?genericPartNumber=TPS71257&fileType=pdf; ComponentLink3Description: Package Specification; ComponentLink3URL: http://www.ti.com/litv/pdf/mpds117k
footprint TI-DRC10-2400X1650TP_V (SON, 10-Leads, Body 3x3mm, Pitch 0.5mm, Thermal Pad 3x1.65mm)
pins: 1 IN (power) "Unregulated input supply. A small 0.1 uF capacitor should be connected from IN to GND.", 2 NC "No connection.", 3 OUT1 (power) "Output of the regulator1. A small 2.2 uF ceramic capacitor is required from this pin to ground to assure stability.", 4 OUT2 (power) "Output of the regulator2. A small 2.2 uF ceramic capacitor is required from this pin to ground to assure stability.", 5 GND (power) "Ground", 6 NR "Noise reduction pin; connect an external bypass capacitor to reduce LDO output noise.", 7 NC "No connection.", 8 EN2 (in) "Driving the enable pin (EN) high turns on LDO2. Driving this pin low puts LDO2 into shutdown mode,reducing operating current. The enable pin should be connected to IN if not used.", 9 NC "No connection.", 10 EN1 (in) "Driving the enable pin (EN) high turns on LDO1. Driving this pin low puts LDO1 into shutdown mode,reducing operating current. The enable pin should be connected to IN if not used.", 11 GND (power) "Ground"

## TPS71257DRCRG4
designator U?
Dual Output High PSRR LDO, 200 mA, Fixed 2.85 V Output, 2.7 to 5.5 V Input, 10-pin SON (DRC), -40 to 125 degC, Green (RoHS & no Sb/Br); Manufacturer: Texas Instruments; PartNumber: TPS71257DRCRG4; Fixed Output Options(V): 2.85; Iout(Max)(A): 0.2; Iq(Typ)(mA): 0.3; SubFamily: Dual Channel LDO; Vdo(Typ)(mV): 125; Vin(Max)(V): 5.5; Vin(Min)(V): 2.7; Vout(Max)(V): 2.8; DatasheetVersion: SBVS049D; PackageVersion: 4204102-3/L; PackageReference: DRC10-2400X1650TP; PackageDescription: 10-Pin Plastic Small Outline, Body 3 x 3 mm, Pitch 0.5 mm; Supplier 1: Digi-Key; Supplier Part Number 1: TPS71257DRCRG4-ND; Supplier 2: Newark; Supplier Part Number 2: 24K6073; Supplier 3: Mouser; Supplier Part Number 3: 595-TPS71257DRCRG4; Eco-Plan: Green (RoHS & no Sb/Br); Iout2(A): 0.2; Vout(Min)(V): 2.8; Vout2(Max)(V): 2.8; Vout2(Min)(V): 2.8; Mounting Technology: Surface Mount; ComponentLink1Description: Manufacturer URL; ComponentLink1URL: http://www.ti.com/; ComponentLink2Description: Datasheet; ComponentLink2URL: http://www.ti.com/general/docs/lit/getliterature.tsp?genericPartNumber=TPS71257&fileType=pdf; ComponentLink3Description: Package Specification; ComponentLink3URL: http://www.ti.com/litv/pdf/mpds117k
footprint TI-DRC10-2400X1650TP_V (SON, 10-Leads, Body 3x3mm, Pitch 0.5mm, Thermal Pad 3x1.65mm)
pins: 1 IN (power) "Unregulated input supply. A small 0.1 uF capacitor should be connected from IN to GND.", 2 NC "No connection.", 3 OUT1 (power) "Output of the regulator1. A small 2.2 uF ceramic capacitor is required from this pin to ground to assure stability.", 4 OUT2 (power) "Output of the regulator2. A small 2.2 uF ceramic capacitor is required from this pin to ground to assure stability.", 5 GND (power) "Ground", 6 NR "Noise reduction pin; connect an external bypass capacitor to reduce LDO output noise.", 7 NC "No connection.", 8 EN2 (in) "Driving the enable pin (EN) high turns on LDO2. Driving this pin low puts LDO2 into shutdown mode,reducing operating current. The enable pin should be connected to IN if not used.", 9 NC "No connection.", 10 EN1 (in) "Driving the enable pin (EN) high turns on LDO1. Driving this pin low puts LDO1 into shutdown mode,reducing operating current. The enable pin should be connected to IN if not used.", 11 GND (power) "Ground"

## TPS71257DRCT
designator U?
Dual Output High PSRR LDO, 200 mA, Fixed 2.85 V Output, 2.7 to 5.5 V Input, 10-pin SON (DRC), -40 to 125 degC, Green (RoHS & no Sb/Br); Manufacturer: Texas Instruments; PartNumber: TPS71257DRCT; Fixed Output Options(V): 2.85; Iout(Max)(A): 0.2; Iq(Typ)(mA): 0.3; SubFamily: Dual Channel LDO; Vdo(Typ)(mV): 125; Vin(Max)(V): 5.5; Vin(Min)(V): 2.7; Vout(Max)(V): 2.8; DatasheetVersion: SBVS049D; PackageVersion: 4204102-3/L; PackageReference: DRC10-2400X1650TP; PackageDescription: 10-Pin Plastic Small Outline, Body 3 x 3 mm, Pitch 0.5 mm; Supplier 1: Digi-Key; Supplier Part Number 1: 296-17700-2-ND; Supplier 2: Digi-Key; Supplier Part Number 2: 296-17700-1-ND; Supplier 3: Digi-Key; Supplier Part Number 3: 296-17700-6-ND; Supplier 4: Mouser; Supplier Part Number 4: 595-TPS71257DRCT; Eco-Plan: Green (RoHS & no Sb/Br); Iout2(A): 0.2; Vout(Min)(V): 2.8; Vout2(Max)(V): 2.8; Vout2(Min)(V): 2.8; Mounting Technology: Surface Mount; ComponentLink1Description: Manufacturer URL; ComponentLink1URL: http://www.ti.com/; ComponentLink2Description: Datasheet; ComponentLink2URL: http://www.ti.com/general/docs/lit/getliterature.tsp?genericPartNumber=TPS71257&fileType=pdf; ComponentLink3Description: Package Specification; ComponentLink3URL: http://www.ti.com/litv/pdf/mpds117k
footprint TI-DRC10-2400X1650TP_V (SON, 10-Leads, Body 3x3mm, Pitch 0.5mm, Thermal Pad 3x1.65mm)
pins: 1 IN (power) "Unregulated input supply. A small 0.1 uF capacitor should be connected from IN to GND.", 2 NC "No connection.", 3 OUT1 (power) "Output of the regulator1. A small 2.2 uF ceramic capacitor is required from this pin to ground to assure stability.", 4 OUT2 (power) "Output of the regulator2. A small 2.2 uF ceramic capacitor is required from this pin to ground to assure stability.", 5 GND (power) "Ground", 6 NR "Noise reduction pin; connect an external bypass capacitor to reduce LDO output noise.", 7 NC "No connection.", 8 EN2 (in) "Driving the enable pin (EN) high turns on LDO2. Driving this pin low puts LDO2 into shutdown mode,reducing operating current. The enable pin should be connected to IN if not used.", 9 NC "No connection.", 10 EN1 (in) "Driving the enable pin (EN) high turns on LDO1. Driving this pin low puts LDO1 into shutdown mode,reducing operating current. The enable pin should be connected to IN if not used.", 11 GND (power) "Ground"

## TPS71257DRCTG4
designator U?
Dual Output High PSRR LDO, 200 mA, Fixed 2.85 V Output, 2.7 to 5.5 V Input, 10-pin SON (DRC), -40 to 125 degC, Green (RoHS & no Sb/Br); Manufacturer: Texas Instruments; PartNumber: TPS71257DRCTG4; Fixed Output Options(V): 2.85; Iout(Max)(A): 0.2; Iq(Typ)(mA): 0.3; SubFamily: Dual Channel LDO; Vdo(Typ)(mV): 125; Vin(Max)(V): 5.5; Vin(Min)(V): 2.7; Vout(Max)(V): 2.8; DatasheetVersion: SBVS049D; PackageVersion: 4204102-3/L; PackageReference: DRC10-2400X1650TP; PackageDescription: 10-Pin Plastic Small Outline, Body 3 x 3 mm, Pitch 0.5 mm; Supplier 1: Digi-Key; Supplier Part Number 1: TPS71257DRCTG4-ND; Supplier 2: Mouser; Supplier Part Number 2: 595-TPS71257DRCTG4; Eco-Plan: Green (RoHS & no Sb/Br); Iout2(A): 0.2; Vout(Min)(V): 2.8; Vout2(Max)(V): 2.8; Vout2(Min)(V): 2.8; Mounting Technology: Surface Mount; ComponentLink1Description: Manufacturer URL; ComponentLink1URL: http://www.ti.com/; ComponentLink2Description: Datasheet; ComponentLink2URL: http://www.ti.com/general/docs/lit/getliterature.tsp?genericPartNumber=TPS71257&fileType=pdf; ComponentLink3Description: Package Specification; ComponentLink3URL: http://www.ti.com/litv/pdf/mpds117k
footprint TI-DRC10-2400X1650TP_V (SON, 10-Leads, Body 3x3mm, Pitch 0.5mm, Thermal Pad 3x1.65mm)
pins: 1 IN (power) "Unregulated input supply. A small 0.1 uF capacitor should be connected from IN to GND.", 2 NC "No connection.", 3 OUT1 (power) "Output of the regulator1. A small 2.2 uF ceramic capacitor is required from this pin to ground to assure stability.", 4 OUT2 (power) "Output of the regulator2. A small 2.2 uF ceramic capacitor is required from this pin to ground to assure stability.", 5 GND (power) "Ground", 6 NR "Noise reduction pin; connect an external bypass capacitor to reduce LDO output noise.", 7 NC "No connection.", 8 EN2 (in) "Driving the enable pin (EN) high turns on LDO2. Driving this pin low puts LDO2 into shutdown mode,reducing operating current. The enable pin should be connected to IN if not used.", 9 NC "No connection.", 10 EN1 (in) "Driving the enable pin (EN) high turns on LDO1. Driving this pin low puts LDO1 into shutdown mode,reducing operating current. The enable pin should be connected to IN if not used.", 11 GND (power) "Ground"

## TPS71319DRCR
designator U?
Dual Output High PSRR LDO, 200 mA, Fixed 1.8 V Output, 2.7 to 5.5 V Input, with Integrated SVS, 10-pin SON (DRC), -40 to 125 degC, Green (RoHS & no Sb/Br); Manufacturer: Texas Instruments; PartNumber: TPS71319DRCR; Fixed Output Options(V): 1.8; Iout(Max)(A): 0.2; Iq(Typ)(mA): 0.3; SubFamily: Dual Channel LDO; Vdo(Typ)(mV): 125; Vin(Max)(V): 5.5; Vin(Min)(V): 2.7; Vout2(Min)(V): 1.5; DatasheetVersion: SBVS055A; PackageVersion: 4204102-3/L; PackageReference: DRC10-2400X1650TP; PackageDescription: 10-Pin Plastic Small Outline, Body 3 x 3 mm, Pitch 0.5 mm; Supplier 1: Digi-Key; Supplier Part Number 1: TPS71319DRCR-ND; Supplier 2: Newark; Supplier Part Number 2: 08K4967; Supplier 3: Mouser; Supplier Part Number 3: 595-TPS71319DRCR; Eco-Plan: Green (RoHS & no Sb/Br); Iout2(A): 0.2; Vout(Max)(V): 1.8; Vout(Min)(V): 1.8; Vout2(Max)(V): 5.5; Mounting Technology: Surface Mount; ComponentLink1Description: Manufacturer URL; ComponentLink1URL: http://www.ti.com/; ComponentLink2Description: Datasheet; ComponentLink2URL: http://www.ti.com/general/docs/lit/getliterature.tsp?genericPartNumber=TPS71319&fileType=pdf; ComponentLink3Description: Package Specification; ComponentLink3URL: http://www.ti.com/litv/pdf/mpds117k
footprint TI-DRC10-2400X1650TP_V (SON, 10-Leads, Body 3x3mm, Pitch 0.5mm, Thermal Pad 3x1.65mm)
pins: 1 IN (power) "Unregulated input supply. A 0.1 uF capacitor should be connected from IN to GND.", 2 ~{RESET} (oc) "Open-drain reset ouput; monitors OUT2.A 10 k ohm to 1Mohm pull-up resistor is suitable for most applications.The open-drain R\E\S\E\T\  pull-up voltage should not exceed VDD + 0.3 V", 3 OUT1 (power) "Output of the regulator. A small 2.2 uF ceramic capacitor is required from this pin to ground to assure stability.", 4 OUT2 (power) "Same as OUT1 but for LDO2.", 5 GND (power) "Ground", 6 NR "Noise reduction pin; connect an external bypass capacitor to reduce LDO output noise.", 7 FB2 (in) "Feedback for CH2 adjustable version;", 8 EN2 (in) "Same as EN1 but controls LDO2.", 9 NC "No connection.", 10 EN1 (in) "Driving the enable pin (EN) high turns on LDO1.Driving this pin low puts LDO1 into shutdown mode,reducing operating current. The enable pin should be connected to IN if not used.", 11 GND (power) "Ground"

## TPS71319DRCRG4
designator U?
Dual Output High PSRR LDO, 200 mA, Fixed 1.8 V Output, 2.7 to 5.5 V Input, with Integrated SVS, 10-pin SON (DRC), -40 to 125 degC, Green (RoHS & no Sb/Br); Manufacturer: Texas Instruments; PartNumber: TPS71319DRCRG4; Fixed Output Options(V): 1.8; Iout(Max)(A): 0.2; Iq(Typ)(mA): 0.3; SubFamily: Dual Channel LDO; Vdo(Typ)(mV): 125; Vin(Max)(V): 5.5; Vin(Min)(V): 2.7; Vout2(Min)(V): 1.5; DatasheetVersion: SBVS055A; PackageVersion: 4204102-3/L; PackageReference: DRC10-2400X1650TP; PackageDescription: 10-Pin Plastic Small Outline, Body 3 x 3 mm, Pitch 0.5 mm; Supplier 1: Digi-Key; Supplier Part Number 1: TPS71319DRCRG4-ND; Supplier 2: Mouser; Supplier Part Number 2: 595-TPS71319DRCRG4; Eco-Plan: Green (RoHS & no Sb/Br); Iout2(A): 0.2; Vout(Max)(V): 1.8; Vout(Min)(V): 1.8; Vout2(Max)(V): 5.5; Mounting Technology: Surface Mount; ComponentLink1Description: Manufacturer URL; ComponentLink1URL: http://www.ti.com/; ComponentLink2Description: Datasheet; ComponentLink2URL: http://www.ti.com/general/docs/lit/getliterature.tsp?genericPartNumber=TPS71319&fileType=pdf; ComponentLink3Description: Package Specification; ComponentLink3URL: http://www.ti.com/litv/pdf/mpds117k
footprint TI-DRC10-2400X1650TP_V (SON, 10-Leads, Body 3x3mm, Pitch 0.5mm, Thermal Pad 3x1.65mm)
pins: 1 IN (power) "Unregulated input supply. A 0.1 uF capacitor should be connected from IN to GND.", 2 ~{RESET} (oc) "Open-drain reset ouput; monitors OUT2.A 10 k ohm to 1Mohm pull-up resistor is suitable for most applications.The open-drain R\E\S\E\T\  pull-up voltage should not exceed VDD + 0.3 V", 3 OUT1 (power) "Output of the regulator. A small 2.2 uF ceramic capacitor is required from this pin to ground to assure stability.", 4 OUT2 (power) "Same as OUT1 but for LDO2.", 5 GND (power) "Ground", 6 NR "Noise reduction pin; connect an external bypass capacitor to reduce LDO output noise.", 7 FB2 (in) "Feedback for CH2 adjustable version;", 8 EN2 (in) "Same as EN1 but controls LDO2.", 9 NC "No connection.", 10 EN1 (in) "Driving the enable pin (EN) high turns on LDO1.Driving this pin low puts LDO1 into shutdown mode,reducing operating current. The enable pin should be connected to IN if not used.", 11 GND (power) "Ground"